# Altium integrated library Aimtec DC-DC converter.IntLib: 3 symbols
Pins are listed as number, name and electrical type; pins without a type are passive.

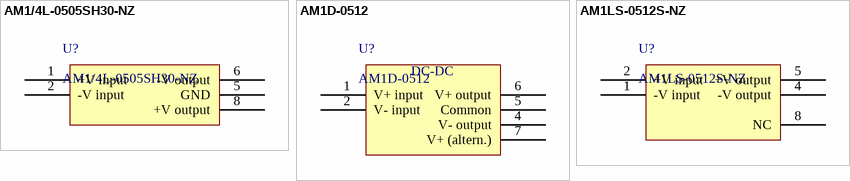
[diagram p0: symbols AM1/4L-0505SH30-NZ to AM1LS-0512S-NZ]

## AM1/4L-0505SH30-NZ
designator U?
1/4 Watt | DC-DC Converter With Dual Bipolar Output
footprint DC-DC_3000VDC (DC-DC chip 3000 VDC isolation)
pins: 1 +V input, 2 -V input, 5 GND, 6 -V output, 8 +V output

## AM1D-0512
designator U?
DC-DC 5-12V convertor
footprint SIP14
pins: 1 V+ input, 2 V- input, 4 V- output, 5 Common, 6 V+ output, 7 V+ (altern.)
text: DC-DC

## AM1LS-0512S-NZ
designator U?
DC-DC convertor 5V-12V
footprint SOP8
pins: 1 -V input, 2 +V input, 4 -V output, 5 +V output, 8 NC